# Altium schematic symbol library SCH - LEVEL TRANSLATOR - TI TCA9406 SM8 US8.SchLib: 1 symbol
Pins are listed as number, name and electrical type; pins without a type are passive.

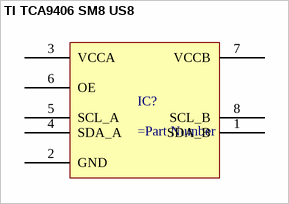
[diagram p0: symbol TI TCA9406 SM8 US8]

## TI TCA9406 SM8 US8
designator IC?
pins: 1 SDA_B, 2 GND, 3 VCCA, 4 SDA_A, 5 SCL_A, 6 OE, 7 VCCB, 8 SCL_B